# EAGLE library part 2NAND (library kitt.ic)
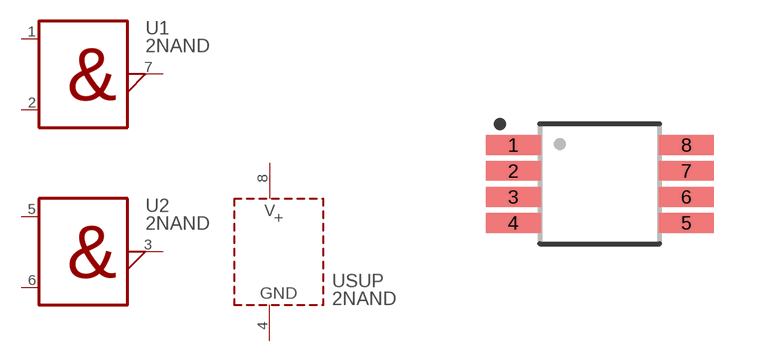
[diagram p13: symbol with the pads of SOP65P490X110-8N; footprint SOP65P490X110-8N]

Designator prefix U; gates 1=NICHT!UND-GATTER. 2=NICHT!UND-GATTER. SUP=COMVCCVDD

## 2NANDSOP8  [SOP65P490X110-8N]
1  1:A
2  1:B
3  2:Y
4  SUP:GND
5  2:A
6  2:B
7  1:Y
8  SUP:V+

## Footprint SOP65P490X110-8N (pad centres in mm)
smd 1.38 x 0.5: 1 -2.165,0.975; 2 -2.165,0.325; 3 -2.165,-0.325; 4 -2.165,-0.975; 5 2.165,-0.975; 6 2.165,-0.325; 7 2.165,0.325; 8 2.165,0.975